# EAGLE library part ATTINY84 (library KaiBader-Microcontrollers)
Atmel ATtiny84 Microcontroller 8-bit AVR Microcontroller, 8KB Flash Pin-compatible to ATtiny24, ATtiny44
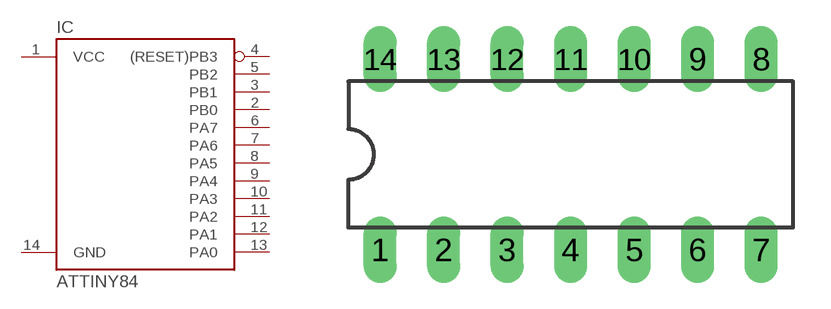
[diagram p5: symbol with the pads of DIL14; footprint DIL14]

Designator prefix IC

## ATTINY84  [DIL14]
1  VCC  pwr
2  PB0
3  PB1
4  (RESET)PB3
5  PB2
6  PA7
7  PA6
8  PA5
9  PA4
10  PA3
11  PA2
12  PA1
13  PA0
14  GND  pwr

## Footprint DIL14 (pad centres in mm)
Dual In Line Package
drill 0.813 long: 1 -7.62,-3.81; 2 -5.08,-3.81; 3 -2.54,-3.81; 4 0,-3.81; 5 2.54,-3.81; 6 5.08,-3.81; 7 7.62,-3.81; 8 7.62,3.81; 9 5.08,3.81; 10 2.54,3.81; 11 0,3.81; 12 -2.54,3.81; 13 -5.08,3.81; 14 -7.62,3.81